# EAGLE library part 615016338621 (library 615008185221_Eagle_WR-MJ_rev20b)
WR-MJ Modular Jack Tab Up . LED 8P8C Dual USB KIND PROPERTIES LED:yellow-green General Information Operating Temperature:-25 up to +85 °C Electrical Properties Working Voltage: 120 V (AC) Withstanding Voltage:1000V (AC) Contact Resistance:20mΩ RISO:500 MΩ Material Properties Insulator MateriaL:PBT Insulator Flammability Rating:UL94 V-0 Color:Black Contact Material:Copper Alloy Contact Plating:Selective Gold Contact Type:Stamped Shielding Material SPCC Shielding Plating:Nickel Packaging Properties Packaging:Tray <https://www.we-online.com/catalog/media/o60650v209%20Family_MJ-H_Shielded_Up_615016338621.jpg> Details see: https://www.we-online.com/catalog/en/MJ_TAB_UP_W_LED_8P8C_DUAL_USB/ Updated by Yingchun,Shan 2019-11-26 2019 (C) Würth Elektronik
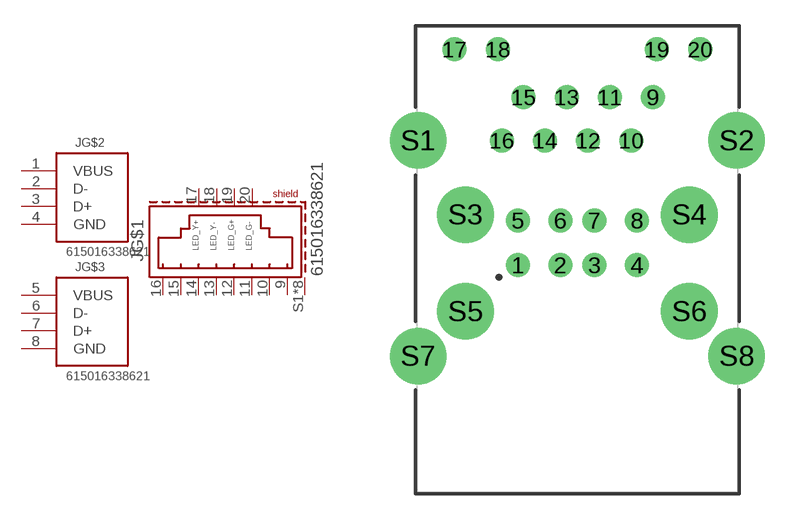
[diagram p25: symbol with the pads of 615016338621; footprint 615016338621]

Designator prefix J; gates G$1=8P8C_S_LEDYG G$2=USB G$3=USB

## 615016338621 (DATASHEET-URL: https://www.we-online.com/catalog/datasheet/615016338621.pdf; LED: yellow-green; MOUNT: THT; PART-NUMBER: 615016338621; TYPE: Horizontal; VALUE: 615016338621; XPXC: 8P8C)  [615016338621]
1  G$2:VBUS  pas
2  G$2:D-  pas
3  G$2:D+  pas
4  G$2:GND  pas
5  G$3:VBUS  pas
6  G$3:D-  pas
7  G$3:D+  pas
8  G$3:GND  pas
9  G$1:1  pas
10  G$1:2  pas
11  G$1:3  pas
12  G$1:4  pas
13  G$1:5  pas
14  G$1:6  pas
15  G$1:7  pas
16  G$1:8  pas
17  G$1:Y+  pas
18  G$1:Y-  pas
19  G$1:G+  pas
20  G$1:G-  pas
S1  G$1:SHIELD  pas
S2  G$1:SHIELD  pas
S3  G$1:SHIELD  pas
S4  G$1:SHIELD  pas
S5  G$1:SHIELD  pas
S6  G$1:SHIELD  pas
S7  G$1:SHIELD  pas
S8  G$1:SHIELD  pas

## Footprint 615016338621 (pad centres in mm)
WR-MJ Modular Jack Tab Up . LED 8P8C Dual USB,8 Pins
drill 0.9: 1 -3.5,-0.32; 2 -1,-0.32; 3 1,-0.32; 4 3.5,-0.32; 5 -3.5,2.3; 6 -1,2.3; 7 1,2.3; 8 3.5,2.3; 9 4.43,9.54; 10 3.16,7; 11 1.9,9.54; 12 0.63,7; 13 -0.63,9.54; 14 -1.9,7; 15 -3.16,9.54; 16 -4.43,7; 17 -7.205,12.35; 18 -4.665,12.35; 19 4.665,12.35; 20 7.205,12.35
drill 2.3: S1 -9.35,7; S2 9.35,7; S3 -6.57,2.65; S4 6.57,2.65; S5 -6.57,-3.03; S6 6.57,-3.03; S7 -9.35,-5.65; S8 9.35,-5.65